# Altium schematic symbol library SN65HVD1050.SchLib: 1 symbol
Pins are listed as number, name and electrical type; pins without a type are passive.

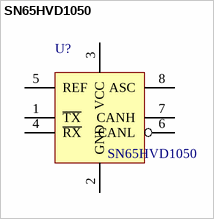
[diagram p0: symbol SN65HVD1050]

## SN65HVD1050
designator U?
DIFFERENTIAL BUS TRANSCEIVERS
footprint SOIC8
footprint DIP8
footprint SO-8
pins: 1 ~{TX}, 2 GND, 3 VCC, 4 ~{RX}, 5 REF, 6 CANL, 7 CANH, 8 ASC
3 alternate drawings of the same symbol